# Altium footprint library SST26VF064B-104IMF.PcbLib: 3 footprints
Each footprint in its own frame and in the unit in brackets; x right, y up, seen from the top. Pads: shape width x height; smd on the part's side, far side on the other; paste and mask are expansions set on the pad; w line width, h text height; cw(c..) or ccw(c..) is an arc to the next point about the centre after c.
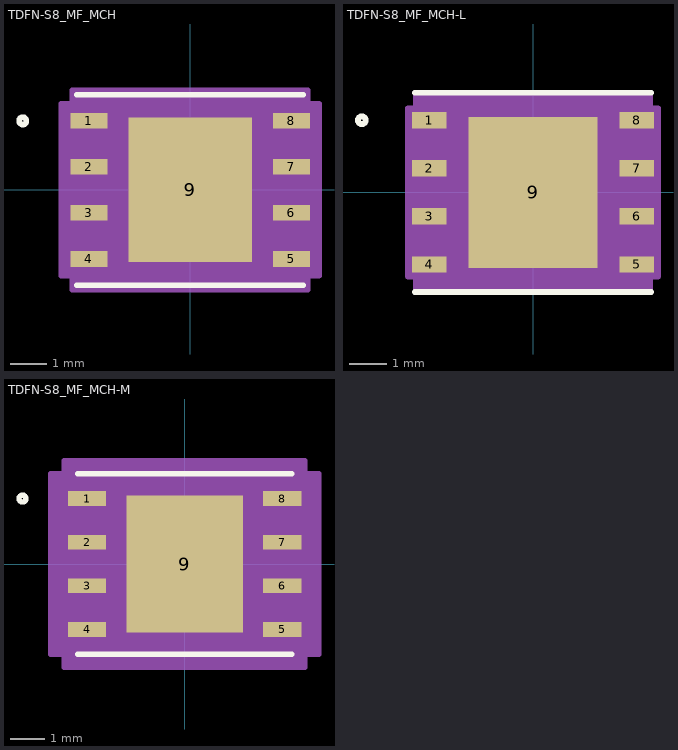
[diagram p0: the footprints below, top view; thin cyan lines are the x and y axes]

## TDFN-S8_MF_MCH [mil]
pads (9):
  rect 40x17 smd paste+0 mask+0: 1(-110,75) 2(-110,25) 3(-110,-25) 4(-110,-75) 5(110,-75) 6(110,-25) 7(110,25) 8(110,75)
  rect 134x157 smd paste+0 mask+0: 9(0,0)
Top Overlay:
  circle w6: c-182,75 r4
  lines w6: -123,-103.5 123,-103.5 ; -123,103.5 123,103.5
Top Paste:
  region: -3.94,74.56 -63.06,74.56 -63.06,30.1 -3.94,30.1
  region: -3.94,22.23 -63.06,22.23 -63.06,-22.23 -3.94,-22.23
  region: -3.94,-30.1 -63.06,-30.1 -63.06,-74.56 -3.94,-74.56
  region: 63.06,74.56 3.94,74.56 3.94,30.1 63.06,30.1
  region: 63.06,22.23 3.94,22.23 3.94,-22.23 63.06,-22.23
  region: 63.06,-30.1 3.94,-30.1 3.94,-74.56 63.06,-74.56
Mechanical 13:
  circle w0: c-90,75 r3
  lines w0: -12,98.5 ccw(c0,98.5) 12,98.5
  lines w1: -118,-98.5 118,-98.5 118,98.5 -118,98.5 -118,-98.5
Mechanical 15:
  region: -128,-93.5 -140,-93.5 -140,93.5 -128,93.5 -128,108.5 128,108.5 128,93.5 140,93.5 140,-93.5 128,-93.5 128,-108.5 -128,-108.5
  lines w6: -140,-93.5 -140,93.5 -128,93.5 -128,108.5 128,108.5 128,93.5 140,93.5 140,-93.5 128,-93.5 128,-108.5 -128,-108.5 -128,-93.5 -140,-93.5
3D body "TDFN-S8_MF_MCH.step": height 32.09, standoff 0, extent -117.99,-98.5 117.99,98.5

## TDFN-S8_MF_MCH-L [mil]
pads (9):
  rect 36x17 smd paste+0 mask+0: 1(-108,75) 2(-108,25) 3(-108,-25) 4(-108,-75) 5(108,-75) 6(108,-25) 7(108,25) 8(108,75)
  rect 134x157 smd paste+0 mask+0: 9(0,0)
Top Overlay:
  circle w6: c-178,75 r4
  lines w6: -123,-103.5 123,-103.5 ; -123,103.5 123,103.5
Top Paste:
  region: -3.94,74.56 -63.06,74.56 -63.06,30.1 -3.94,30.1
  region: -3.94,22.23 -63.06,22.23 -63.06,-22.23 -3.94,-22.23
  region: -3.94,-30.1 -63.06,-30.1 -63.06,-74.56 -3.94,-74.56
  region: 63.06,74.56 3.94,74.56 3.94,30.1 63.06,30.1
  region: 63.06,22.23 3.94,22.23 3.94,-22.23 63.06,-22.23
  region: 63.06,-30.1 3.94,-30.1 3.94,-74.56 63.06,-74.56
Mechanical 13:
  circle w0: c-90,75 r3
  lines w0: -12,98.5 ccw(c0,98.5) 12,98.5
  lines w1: -118,-98.5 118,-98.5 118,98.5 -118,98.5 -118,-98.5
Mechanical 15:
  region: -122,-87.5 -130,-87.5 -130,87.5 -122,87.5 -122,102.5 122,102.5 122,87.5 130,87.5 130,-87.5 122,-87.5 122,-102.5 -122,-102.5
  lines w6: -130,-87.5 -130,87.5 -122,87.5 -122,102.5 122,102.5 122,87.5 130,87.5 130,-87.5 122,-87.5 122,-102.5 -122,-102.5 -122,-87.5 -130,-87.5
3D body "TDFN-S8_MF_MCH.step": height 32.09, standoff 0, extent -117.99,-98.5 117.99,98.5

## TDFN-S8_MF_MCH-M [mil]
pads (9):
  rect 44x17 smd paste+0 mask+0: 1(-112,75) 2(-112,25) 3(-112,-25) 4(-112,-75) 5(112,-75) 6(112,-25) 7(112,25) 8(112,75)
  rect 134x157 smd paste+0 mask+0: 9(0,0)
Top Overlay:
  circle w6: c-186,75 r4
  lines w6: -123,-103.5 123,-103.5 ; -123,103.5 123,103.5
Top Paste:
  region: -3.94,74.56 -63.06,74.56 -63.06,30.1 -3.94,30.1
  region: -3.94,22.23 -63.06,22.23 -63.06,-22.23 -3.94,-22.23
  region: -3.94,-30.1 -63.06,-30.1 -63.06,-74.56 -3.94,-74.56
  region: 63.06,74.56 3.94,74.56 3.94,30.1 63.06,30.1
  region: 63.06,22.23 3.94,22.23 3.94,-22.23 63.06,-22.23
  region: 63.06,-30.1 3.94,-30.1 3.94,-74.56 63.06,-74.56
Mechanical 13:
  circle w0: c-90,75 r3
  lines w0: -12,98.5 ccw(c0,98.5) 12,98.5
  lines w1: -118,-98.5 118,-98.5 118,98.5 -118,98.5 -118,-98.5
Mechanical 15:
  region: -138,-103.5 -154,-103.5 -154,103.5 -138,103.5 -138,118.5 138,118.5 138,103.5 154,103.5 154,-103.5 138,-103.5 138,-118.5 -138,-118.5
  lines w6: -154,-103.5 -154,103.5 -138,103.5 -138,118.5 138,118.5 138,103.5 154,103.5 154,-103.5 138,-103.5 138,-118.5 -138,-118.5 -138,-103.5 -154,-103.5
3D body "TDFN-S8_MF_MCH.step": height 32.09, standoff 0, extent -117.99,-98.5 117.99,98.5